# Altium schematic symbol library IF0505S-2W.SchLib: 1 symbol
Pins are listed as number, name and electrical type; pins without a type are passive.

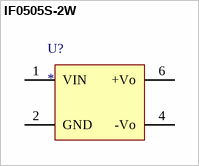
[diagram p0: symbol IF0505S-2W]

## IF0505S-2W
designator U?
pins: 1 VIN (power), 2 GND (power), 4 -Vo (power), 6 +Vo (power)